# Altium integrated library Maxim Power and Battery Management.IntLib: 645 symbols (part 6 of 15)
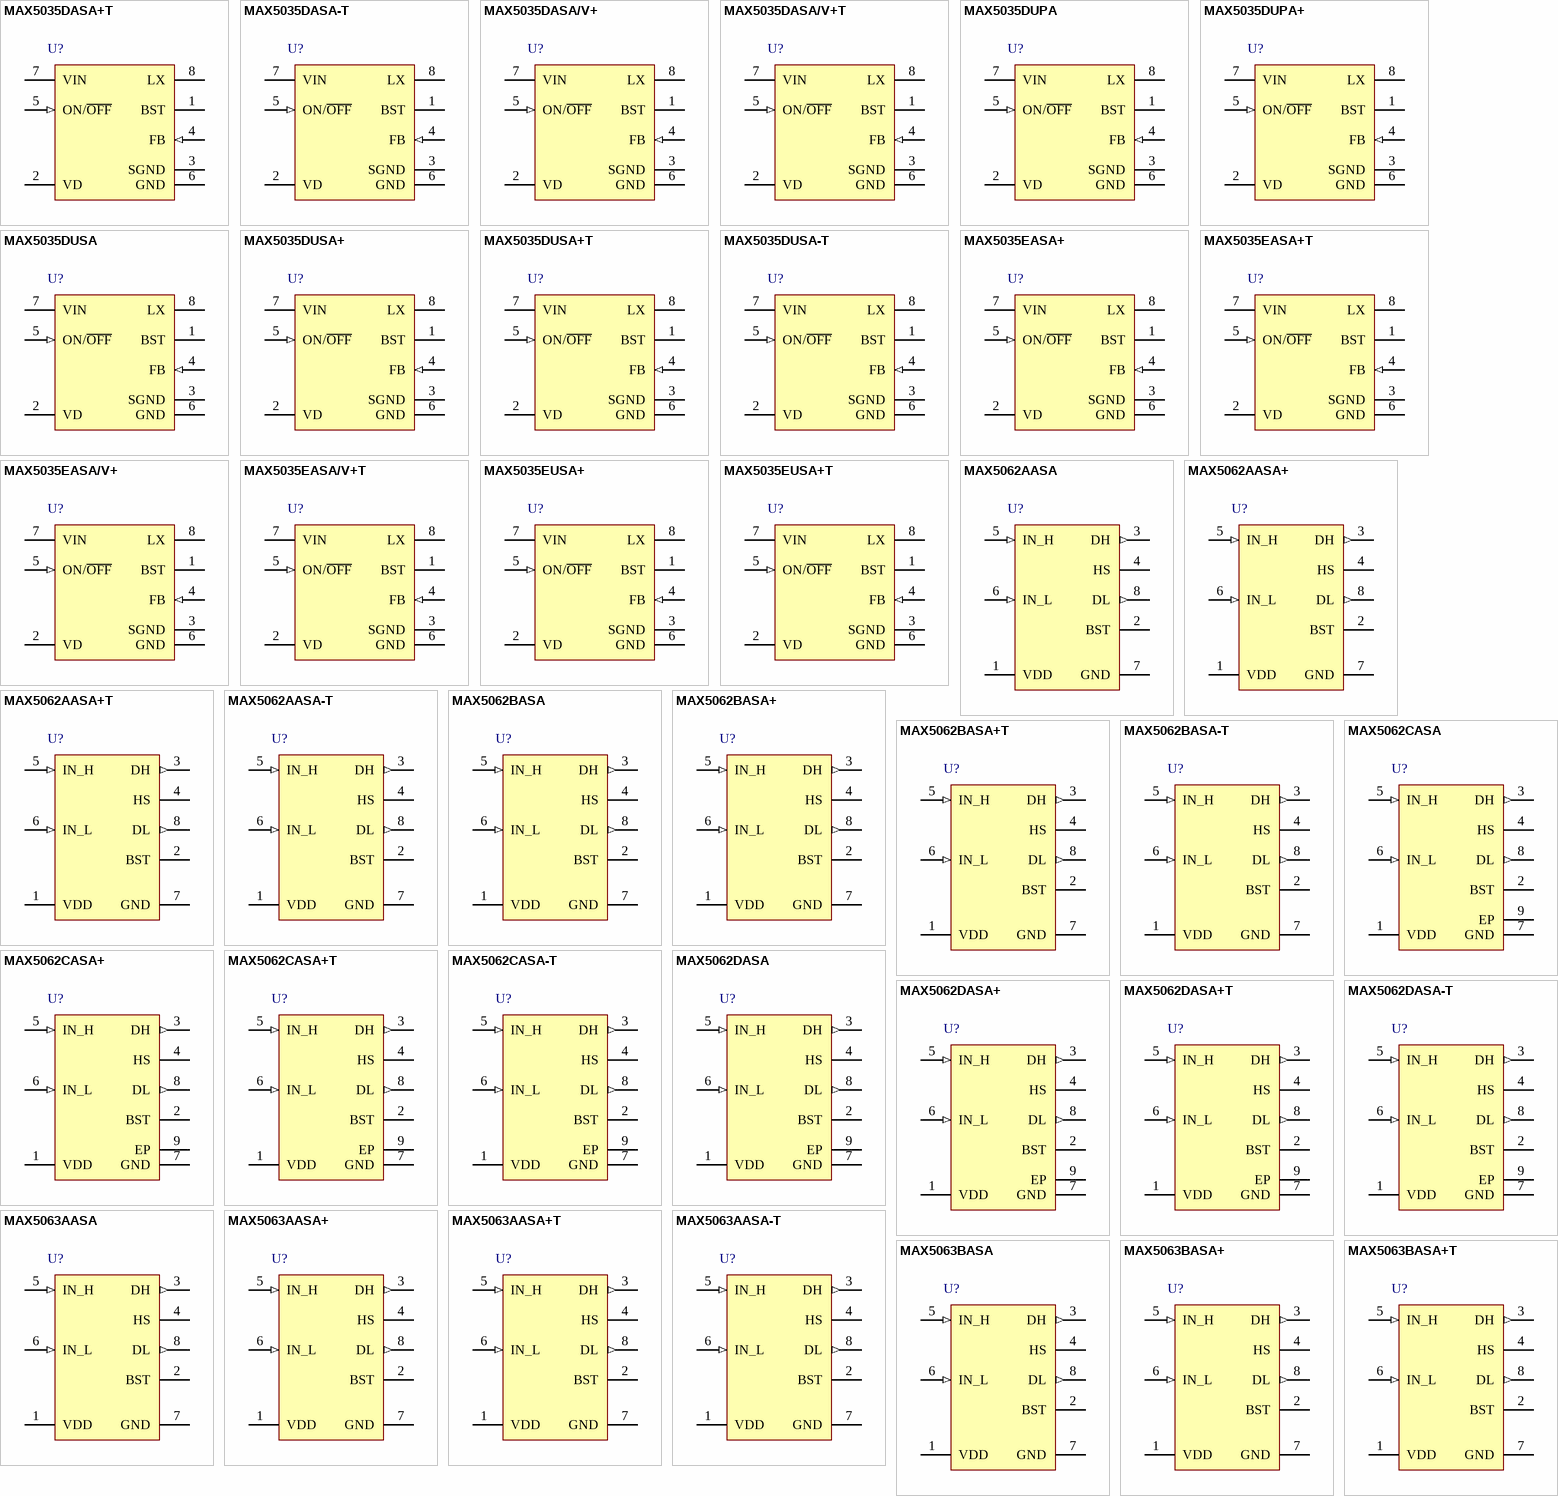
[diagram p24: symbols MAX5035DASA+T to MAX5063BASA+T]

## MAX5062BASA+
designator U?
125V/2A, High-Speed, Half-Bridge MOSFET Driver, non-inverting high driver, inverting low driver, 8-Pin SOIC, -40°C to +125°C, Pb-Free; DatasheetVersion: Rev 5, May-2007; PackageVersion: revC, 2010; PackageReference: S8+5; PackageDescription: 8-Pin Small-Outline IC, Narrow (0.15in), 1.27 mm Pitch, SOIC (N), Pb-Free; Code_JEDEC: MS-012-AA; Code_IPC: SOIC127P600-8; ComponentLink1Description: Manufacturer URL; ComponentLink1URL: http://www.maxim-ic.com; ComponentLink2Description: Datasheet; ComponentLink2URL: http://datasheets.maxim-ic.com/en/ds/MAX5062-MAX5064B.pdf; ComponentLink3Description: Package Specification; ComponentLink3URL: http://pdfserv.maxim-ic.com/package_dwgs/21-0041.PDF
footprint S8+5_N (SOIC, 8-Leads, Body 4.9x3.9mm, Pitch 1.27mm, IPC Medium Density)
footprint S8+5_L (SOIC, 8-Leads, Body 4.9x3.9mm, Pitch 1.27mm, IPC High Density)
footprint S8+5_M (SOIC, 8-Leads, Body 4.9x3.9mm, Pitch 1.27mm, IPC Low Density)
pins: 1 VDD (power), 2 BST, 3 DH (out), 4 HS, 5 IN_H (in), 6 IN_L (in), 7 GND (power), 8 DL (out)

## MAX5062BASA+T
designator U?
125V/2A, High-Speed, Half-Bridge MOSFET Driver, non-inverting high driver, inverting low driver, 8-Pin SOIC-EP, -40°C to +125°C, Pb-Free, Tape and Reel; DatasheetVersion: Rev 5, May-2007; PackageVersion: revC, 2010; PackageReference: S8+5; PackageDescription: 8-Pin Small-Outline IC, Narrow (0.15in), 1.27 mm Pitch, SOIC (N), Pb-Free; Code_JEDEC: MS-012-AA; Code_IPC: SOIC127P600-8; ComponentLink1Description: Manufacturer URL; ComponentLink1URL: http://www.maxim-ic.com; ComponentLink2Description: Datasheet; ComponentLink2URL: http://datasheets.maxim-ic.com/en/ds/MAX5062-MAX5064B.pdf; ComponentLink3Description: Package Specification; ComponentLink3URL: http://pdfserv.maxim-ic.com/package_dwgs/21-0111.PDF
footprint S8+5_N (SOIC, 8-Leads, Body 4.9x3.9mm, Pitch 1.27mm, IPC Medium Density)
footprint S8+5_L (SOIC, 8-Leads, Body 4.9x3.9mm, Pitch 1.27mm, IPC High Density)
footprint S8+5_M (SOIC, 8-Leads, Body 4.9x3.9mm, Pitch 1.27mm, IPC Low Density)
pins: 1 VDD (power), 2 BST, 3 DH (out), 4 HS, 5 IN_H (in), 6 IN_L (in), 7 GND (power), 8 DL (out)

## MAX5062BASA-T
designator U?
125V/2A, High-Speed, Half-Bridge MOSFET Driver, non-inverting high driver, inverting low driver, 8-Pin SOIC-EP, -40°C to +125°C, Tape and Reel; DatasheetVersion: Rev 5, May-2007; PackageVersion: revC, 2010; PackageReference: S8-5; PackageDescription: 8-Pin Small-Outline IC, Narrow (0.15in), 1.27 mm Pitch, SOIC (N); Code_JEDEC: MS-012-AA; Code_IPC: SOIC127P600-8; ComponentLink1Description: Manufacturer URL; ComponentLink1URL: http://www.maxim-ic.com; ComponentLink2Description: Datasheet; ComponentLink2URL: http://datasheets.maxim-ic.com/en/ds/MAX5062-MAX5064B.pdf; ComponentLink3Description: Package Specification; ComponentLink3URL: http://pdfserv.maxim-ic.com/package_dwgs/21-0111.PDF
footprint S8-5_N (SOIC, 8-Leads, Body 4.9x3.9mm, Pitch 1.27mm, IPC Medium Density)
footprint S8-5_L (SOIC, 8-Leads, Body 4.9x3.9mm, Pitch 1.27mm, IPC High Density)
footprint S8-5_M (SOIC, 8-Leads, Body 4.9x3.9mm, Pitch 1.27mm, IPC Low Density)
pins: 1 VDD (power), 2 BST, 3 DH (out), 4 HS, 5 IN_H (in), 6 IN_L (in), 7 GND (power), 8 DL (out)

## MAX5062CASA
designator U?
125V/2A, High-Speed, Half-Bridge MOSFET Driver, non-inverting high driver, non-inverting low driver, 8-Pin SOIC-EP, -40°C to +125°C; DatasheetVersion: Rev 5, May-2007; PackageVersion: revE, 2009; PackageReference: S8E-14; PackageDescription: 8-Pin Small-Outline IC, Narrow (0.15in), Exposed Pad, 1.27 mm Pitch, SOIC(N)-EP; Code_JEDEC: MS-012*; ComponentLink1Description: Manufacturer URL; ComponentLink1URL: http://www.maxim-ic.com; ComponentLink2Description: Datasheet; ComponentLink2URL: http://datasheets.maxim-ic.com/en/ds/MAX5062-MAX5064B.pdf; ComponentLink3Description: Package Specification; ComponentLink3URL: http://pdfserv.maxim-ic.com/package_dwgs/21-0111.PDF
footprint S8E-14_N (SOIC, 8-Leads, Body 4.9x3.9mm, Pitch 1.27mm, Thermal Pad, IPC Medium Density)
footprint S8E-14_L (SOIC, 8-Leads, Body 4.9x3.9mm, Pitch 1.27mm, Thermal Pad, IPC High Density)
footprint S8E-14_M (SOIC, 8-Leads, Body 4.9x3.9mm, Pitch 1.27mm, Thermal Pad, IPC Low Density)
pins: 1 VDD (power), 2 BST, 3 DH (out), 4 HS, 5 IN_H (in), 6 IN_L (in), 7 GND (power), 8 DL (out), 9 EP (power)

## MAX5062CASA+
designator U?
125V/2A, High-Speed, Half-Bridge MOSFET Driver, non-inverting high driver, non-inverting low driver, 8-Pin SOIC-EP, -40°C to +125°C, Pb-Free; DatasheetVersion: Rev 5, May-2007; PackageVersion: revE, 2009; PackageReference: S8E+14; PackageDescription: 8-Pin Small-Outline IC, Narrow (0.15in), Exposed Pad, 1.27 mm Pitch, SOIC(N)-EP, Pb-Free; Code_JEDEC: MS-012*; ComponentLink1Description: Manufacturer URL; ComponentLink1URL: http://www.maxim-ic.com; ComponentLink2Description: Datasheet; ComponentLink2URL: http://datasheets.maxim-ic.com/en/ds/MAX5062-MAX5064B.pdf; ComponentLink3Description: Package Specification; ComponentLink3URL: http://pdfserv.maxim-ic.com/package_dwgs/21-0111.PDF
footprint S8E+14_N (SOIC, 8-Leads, Body 4.9x3.9mm, Pitch 1.27mm, Thermal Pad, IPC Medium Density)
footprint S8E+14_L (SOIC, 8-Leads, Body 4.9x3.9mm, Pitch 1.27mm, Thermal Pad, IPC High Density)
footprint S8E+14_M (SOIC, 8-Leads, Body 4.9x3.9mm, Pitch 1.27mm, Thermal Pad, IPC Low Density)
pins: 1 VDD (power), 2 BST, 3 DH (out), 4 HS, 5 IN_H (in), 6 IN_L (in), 7 GND (power), 8 DL (out), 9 EP (power)

## MAX5062CASA+T
designator U?
125V/2A, High-Speed, Half-Bridge MOSFET Driver, non-inverting high driver, non-inverting low driver, 8-Pin SOIC-EP, -40°C to +125°C, Pb-Free, Tape and Reel; DatasheetVersion: Rev 5, May-2007; PackageVersion: revE, 2009; PackageReference: S8E+14; PackageDescription: 8-Pin Small-Outline IC, Narrow (0.15in), Exposed Pad, 1.27 mm Pitch, SOIC(N)-EP, Pb-Free; Code_JEDEC: MS-012*; ComponentLink1Description: Manufacturer URL; ComponentLink1URL: http://www.maxim-ic.com; ComponentLink2Description: Datasheet; ComponentLink2URL: http://datasheets.maxim-ic.com/en/ds/MAX5062-MAX5064B.pdf; ComponentLink3Description: Package Specification; ComponentLink3URL: http://pdfserv.maxim-ic.com/package_dwgs/21-0111.PDF
footprint S8E+14_N (SOIC, 8-Leads, Body 4.9x3.9mm, Pitch 1.27mm, Thermal Pad, IPC Medium Density)
footprint S8E+14_L (SOIC, 8-Leads, Body 4.9x3.9mm, Pitch 1.27mm, Thermal Pad, IPC High Density)
footprint S8E+14_M (SOIC, 8-Leads, Body 4.9x3.9mm, Pitch 1.27mm, Thermal Pad, IPC Low Density)
pins: 1 VDD (power), 2 BST, 3 DH (out), 4 HS, 5 IN_H (in), 6 IN_L (in), 7 GND (power), 8 DL (out), 9 EP (power)

## MAX5062CASA-T
designator U?
125V/2A, High-Speed, Half-Bridge MOSFET Driver, non-inverting high driver, non-inverting low driver, 8-Pin SOIC-EP, -40°C to +125°C, Tape and Reel; DatasheetVersion: Rev 5, May-2007; PackageVersion: revE, 2009; PackageReference: S8E-14; PackageDescription: 8-Pin Small-Outline IC, Narrow (0.15in), Exposed Pad, 1.27 mm Pitch, SOIC(N)-EP; Code_JEDEC: MS-012*; ComponentLink1Description: Manufacturer URL; ComponentLink1URL: http://www.maxim-ic.com; ComponentLink2Description: Datasheet; ComponentLink2URL: http://datasheets.maxim-ic.com/en/ds/MAX5062-MAX5064B.pdf; ComponentLink3Description: Package Specification; ComponentLink3URL: http://pdfserv.maxim-ic.com/package_dwgs/21-0111.PDF
footprint S8E-14_N (SOIC, 8-Leads, Body 4.9x3.9mm, Pitch 1.27mm, Thermal Pad, IPC Medium Density)
footprint S8E-14_L (SOIC, 8-Leads, Body 4.9x3.9mm, Pitch 1.27mm, Thermal Pad, IPC High Density)
footprint S8E-14_M (SOIC, 8-Leads, Body 4.9x3.9mm, Pitch 1.27mm, Thermal Pad, IPC Low Density)
pins: 1 VDD (power), 2 BST, 3 DH (out), 4 HS, 5 IN_H (in), 6 IN_L (in), 7 GND (power), 8 DL (out), 9 EP (power)

## MAX5062DASA
designator U?
125V/2A, High-Speed, Half-Bridge MOSFET Driver, non-inverting high driver, inverting low driver, 8-Pin SOIC-EP, -40°C to +125°C; DatasheetVersion: Rev 5, May-2007; PackageVersion: revE, 2009; PackageReference: S8E-14; PackageDescription: 8-Pin Small-Outline IC, Narrow (0.15in), Exposed Pad, 1.27 mm Pitch, SOIC(N)-EP; Code_JEDEC: MS-012*; ComponentLink1Description: Manufacturer URL; ComponentLink1URL: http://www.maxim-ic.com; ComponentLink2Description: Datasheet; ComponentLink2URL: http://datasheets.maxim-ic.com/en/ds/MAX5062-MAX5064B.pdf; ComponentLink3Description: Package Specification; ComponentLink3URL: http://pdfserv.maxim-ic.com/package_dwgs/21-0111.PDF
footprint S8E-14_N (SOIC, 8-Leads, Body 4.9x3.9mm, Pitch 1.27mm, Thermal Pad, IPC Medium Density)
footprint S8E-14_L (SOIC, 8-Leads, Body 4.9x3.9mm, Pitch 1.27mm, Thermal Pad, IPC High Density)
footprint S8E-14_M (SOIC, 8-Leads, Body 4.9x3.9mm, Pitch 1.27mm, Thermal Pad, IPC Low Density)
pins: 1 VDD (power), 2 BST, 3 DH (out), 4 HS, 5 IN_H (in), 6 IN_L (in), 7 GND (power), 8 DL (out), 9 EP (power)

## MAX5062DASA+
designator U?
125V/2A, High-Speed, Half-Bridge MOSFET Driver, non-inverting high driver, inverting low driver, 8-Pin SOIC-EP, -40°C to +125°C, Pb-Free; DatasheetVersion: Rev 5, May-2007; PackageVersion: revE, 2009; PackageReference: S8E+14; PackageDescription: 8-Pin Small-Outline IC, Narrow (0.15in), Exposed Pad, 1.27 mm Pitch, SOIC(N)-EP, Pb-Free; Code_JEDEC: MS-012*; ComponentLink1Description: Manufacturer URL; ComponentLink1URL: http://www.maxim-ic.com; ComponentLink2Description: Datasheet; ComponentLink2URL: http://datasheets.maxim-ic.com/en/ds/MAX5062-MAX5064B.pdf; ComponentLink3Description: Package Specification; ComponentLink3URL: http://pdfserv.maxim-ic.com/package_dwgs/21-0111.PDF
footprint S8E+14_N (SOIC, 8-Leads, Body 4.9x3.9mm, Pitch 1.27mm, Thermal Pad, IPC Medium Density)
footprint S8E+14_L (SOIC, 8-Leads, Body 4.9x3.9mm, Pitch 1.27mm, Thermal Pad, IPC High Density)
footprint S8E+14_M (SOIC, 8-Leads, Body 4.9x3.9mm, Pitch 1.27mm, Thermal Pad, IPC Low Density)
pins: 1 VDD (power), 2 BST, 3 DH (out), 4 HS, 5 IN_H (in), 6 IN_L (in), 7 GND (power), 8 DL (out), 9 EP (power)

## MAX5062DASA+T
designator U?
125V/2A, High-Speed, Half-Bridge MOSFET Driver, non-inverting high driver, inverting low driver, 8-Pin SOIC-EP, -40°C to +125°C, Pb-Free, Tape and Reel; DatasheetVersion: Rev 5, May-2007; PackageVersion: revE, 2009; PackageReference: S8E+14; PackageDescription: 8-Pin Small-Outline IC, Narrow (0.15in), Exposed Pad, 1.27 mm Pitch, SOIC(N)-EP, Pb-Free; Code_JEDEC: MS-012*; ComponentLink1Description: Manufacturer URL; ComponentLink1URL: http://www.maxim-ic.com; ComponentLink2Description: Datasheet; ComponentLink2URL: http://datasheets.maxim-ic.com/en/ds/MAX5062-MAX5064B.pdf; ComponentLink3Description: Package Specification; ComponentLink3URL: http://pdfserv.maxim-ic.com/package_dwgs/21-0111.PDF
footprint S8E+14_N (SOIC, 8-Leads, Body 4.9x3.9mm, Pitch 1.27mm, Thermal Pad, IPC Medium Density)
footprint S8E+14_L (SOIC, 8-Leads, Body 4.9x3.9mm, Pitch 1.27mm, Thermal Pad, IPC High Density)
footprint S8E+14_M (SOIC, 8-Leads, Body 4.9x3.9mm, Pitch 1.27mm, Thermal Pad, IPC Low Density)
pins: 1 VDD (power), 2 BST, 3 DH (out), 4 HS, 5 IN_H (in), 6 IN_L (in), 7 GND (power), 8 DL (out), 9 EP (power)

## MAX5062DASA-T
designator U?
125V/2A, High-Speed, Half-Bridge MOSFET Driver, non-inverting high driver, inverting low driver, 8-Pin SOIC-EP, -40°C to +125°C, Tape and Reel; DatasheetVersion: Rev 5, May-2007; PackageVersion: revE, 2009; PackageReference: S8E-14; PackageDescription: 8-Pin Small-Outline IC, Narrow (0.15in), Exposed Pad, 1.27 mm Pitch, SOIC(N)-EP; Code_JEDEC: MS-012*; ComponentLink1Description: Manufacturer URL; ComponentLink1URL: http://www.maxim-ic.com; ComponentLink2Description: Datasheet; ComponentLink2URL: http://datasheets.maxim-ic.com/en/ds/MAX5062-MAX5064B.pdf; ComponentLink3Description: Package Specification; ComponentLink3URL: http://pdfserv.maxim-ic.com/package_dwgs/21-0111.PDF
footprint S8E-14_N (SOIC, 8-Leads, Body 4.9x3.9mm, Pitch 1.27mm, Thermal Pad, IPC Medium Density)
footprint S8E-14_L (SOIC, 8-Leads, Body 4.9x3.9mm, Pitch 1.27mm, Thermal Pad, IPC High Density)
footprint S8E-14_M (SOIC, 8-Leads, Body 4.9x3.9mm, Pitch 1.27mm, Thermal Pad, IPC Low Density)
pins: 1 VDD (power), 2 BST, 3 DH (out), 4 HS, 5 IN_H (in), 6 IN_L (in), 7 GND (power), 8 DL (out), 9 EP (power)

## MAX5063AASA
designator U?
125V/2A, High-Speed, Half-Bridge MOSFET Driver, non-inverting high driver, non-inverting low driver, 8-Pin SOIC, -40°C to +125°C; DatasheetVersion: Rev 5, May-2007; PackageVersion: revC, 2010; PackageReference: S8-5; PackageDescription: 8-Pin Small-Outline IC, Narrow (0.15in), 1.27 mm Pitch, SOIC (N); Code_JEDEC: MS-012-AA; Code_IPC: SOIC127P600-8; ComponentLink1Description: Manufacturer URL; ComponentLink1URL: http://www.maxim-ic.com; ComponentLink2Description: Datasheet; ComponentLink2URL: http://datasheets.maxim-ic.com/en/ds/MAX5062-MAX5064B.pdf; ComponentLink3Description: Package Specification; ComponentLink3URL: http://pdfserv.maxim-ic.com/package_dwgs/21-0041.PDF
footprint S8-5_N (SOIC, 8-Leads, Body 4.9x3.9mm, Pitch 1.27mm, IPC Medium Density)
footprint S8-5_L (SOIC, 8-Leads, Body 4.9x3.9mm, Pitch 1.27mm, IPC High Density)
footprint S8-5_M (SOIC, 8-Leads, Body 4.9x3.9mm, Pitch 1.27mm, IPC Low Density)
pins: 1 VDD (power), 2 BST, 3 DH (out), 4 HS, 5 IN_H (in), 6 IN_L (in), 7 GND (power), 8 DL (out)

## MAX5063AASA+
designator U?
125V/2A, High-Speed, Half-Bridge MOSFET Driver, non-inverting high driver, non-inverting low driver, 8-Pin SOIC, -40°C to +125°C, Pb-Free; DatasheetVersion: Rev 5, May-2007; PackageVersion: revC, 2010; PackageReference: S8+5; PackageDescription: 8-Pin Small-Outline IC, Narrow (0.15in), 1.27 mm Pitch, SOIC (N), Pb-Free; Code_JEDEC: MS-012-AA; Code_IPC: SOIC127P600-8; ComponentLink1Description: Manufacturer URL; ComponentLink1URL: http://www.maxim-ic.com; ComponentLink2Description: Datasheet; ComponentLink2URL: http://datasheets.maxim-ic.com/en/ds/MAX5062-MAX5064B.pdf; ComponentLink3Description: Package Specification; ComponentLink3URL: http://pdfserv.maxim-ic.com/package_dwgs/21-0041.PDF
footprint S8+5_N (SOIC, 8-Leads, Body 4.9x3.9mm, Pitch 1.27mm, IPC Medium Density)
footprint S8+5_L (SOIC, 8-Leads, Body 4.9x3.9mm, Pitch 1.27mm, IPC High Density)
footprint S8+5_M (SOIC, 8-Leads, Body 4.9x3.9mm, Pitch 1.27mm, IPC Low Density)
pins: 1 VDD (power), 2 BST, 3 DH (out), 4 HS, 5 IN_H (in), 6 IN_L (in), 7 GND (power), 8 DL (out)

## MAX5063AASA+T
designator U?
125V/2A, High-Speed, Half-Bridge MOSFET Driver, non-inverting high driver, non-inverting low driver, 8-Pin SOIC, -40°C to +125°C, Pb-Free, Tape and Reel; DatasheetVersion: Rev 5, May-2007; PackageVersion: revC, 2010; PackageReference: S8+5; PackageDescription: 8-Pin Small-Outline IC, Narrow (0.15in), 1.27 mm Pitch, SOIC (N), Pb-Free; Code_JEDEC: MS-012-AA; Code_IPC: SOIC127P600-8; ComponentLink1Description: Manufacturer URL; ComponentLink1URL: http://www.maxim-ic.com; ComponentLink2Description: Datasheet; ComponentLink2URL: http://datasheets.maxim-ic.com/en/ds/MAX5062-MAX5064B.pdf; ComponentLink3Description: Package Specification; ComponentLink3URL: http://pdfserv.maxim-ic.com/package_dwgs/21-0041.PDF
footprint S8+5_N (SOIC, 8-Leads, Body 4.9x3.9mm, Pitch 1.27mm, IPC Medium Density)
footprint S8+5_L (SOIC, 8-Leads, Body 4.9x3.9mm, Pitch 1.27mm, IPC High Density)
footprint S8+5_M (SOIC, 8-Leads, Body 4.9x3.9mm, Pitch 1.27mm, IPC Low Density)
pins: 1 VDD (power), 2 BST, 3 DH (out), 4 HS, 5 IN_H (in), 6 IN_L (in), 7 GND (power), 8 DL (out)

## MAX5063AASA-T
designator U?
125V/2A, High-Speed, Half-Bridge MOSFET Driver, non-inverting high driver, non-inverting low driver, 8-Pin SOIC, -40°C to +125°C, Tape and Reel; DatasheetVersion: Rev 5, May-2007; PackageVersion: revC, 2010; PackageReference: S8-5; PackageDescription: 8-Pin Small-Outline IC, Narrow (0.15in), 1.27 mm Pitch, SOIC (N); Code_JEDEC: MS-012-AA; Code_IPC: SOIC127P600-8; ComponentLink1Description: Manufacturer URL; ComponentLink1URL: http://www.maxim-ic.com; ComponentLink2Description: Datasheet; ComponentLink2URL: http://datasheets.maxim-ic.com/en/ds/MAX5062-MAX5064B.pdf; ComponentLink3Description: Package Specification; ComponentLink3URL: http://pdfserv.maxim-ic.com/package_dwgs/21-0041.PDF
footprint S8-5_N (SOIC, 8-Leads, Body 4.9x3.9mm, Pitch 1.27mm, IPC Medium Density)
footprint S8-5_L (SOIC, 8-Leads, Body 4.9x3.9mm, Pitch 1.27mm, IPC High Density)
footprint S8-5_M (SOIC, 8-Leads, Body 4.9x3.9mm, Pitch 1.27mm, IPC Low Density)
pins: 1 VDD (power), 2 BST, 3 DH (out), 4 HS, 5 IN_H (in), 6 IN_L (in), 7 GND (power), 8 DL (out)

## MAX5063BASA
designator U?
125V/2A, High-Speed, Half-Bridge MOSFET Driver, non-inverting high driver, inverting low driver, 8-Pin SOIC, -40°C to +125°C; DatasheetVersion: Rev 5, May-2007; PackageVersion: revC, 2010; PackageReference: S8-5; PackageDescription: 8-Pin Small-Outline IC, Narrow (0.15in), 1.27 mm Pitch, SOIC (N); Code_JEDEC: MS-012-AA; Code_IPC: SOIC127P600-8; ComponentLink1Description: Manufacturer URL; ComponentLink1URL: http://www.maxim-ic.com; ComponentLink2Description: Datasheet; ComponentLink2URL: http://datasheets.maxim-ic.com/en/ds/MAX5062-MAX5064B.pdf; ComponentLink3Description: Package Specification; ComponentLink3URL: http://pdfserv.maxim-ic.com/package_dwgs/21-0041.PDF
footprint S8-5_N (SOIC, 8-Leads, Body 4.9x3.9mm, Pitch 1.27mm, IPC Medium Density)
footprint S8-5_L (SOIC, 8-Leads, Body 4.9x3.9mm, Pitch 1.27mm, IPC High Density)
footprint S8-5_M (SOIC, 8-Leads, Body 4.9x3.9mm, Pitch 1.27mm, IPC Low Density)
pins: 1 VDD (power), 2 BST, 3 DH (out), 4 HS, 5 IN_H (in), 6 IN_L (in), 7 GND (power), 8 DL (out)

## MAX5063BASA+
designator U?
125V/2A, High-Speed, Half-Bridge MOSFET Driver, non-inverting high driver, inverting low driver, 8-Pin SOIC, -40°C to +125°C, Pb-Free; DatasheetVersion: Rev 5, May-2007; PackageVersion: revC, 2010; PackageReference: S8+5; PackageDescription: 8-Pin Small-Outline IC, Narrow (0.15in), 1.27 mm Pitch, SOIC (N), Pb-Free; Code_JEDEC: MS-012-AA; Code_IPC: SOIC127P600-8; ComponentLink1Description: Manufacturer URL; ComponentLink1URL: http://www.maxim-ic.com; ComponentLink2Description: Datasheet; ComponentLink2URL: http://datasheets.maxim-ic.com/en/ds/MAX5062-MAX5064B.pdf; ComponentLink3Description: Package Specification; ComponentLink3URL: http://pdfserv.maxim-ic.com/package_dwgs/21-0041.PDF
footprint S8+5_N (SOIC, 8-Leads, Body 4.9x3.9mm, Pitch 1.27mm, IPC Medium Density)
footprint S8+5_L (SOIC, 8-Leads, Body 4.9x3.9mm, Pitch 1.27mm, IPC High Density)
footprint S8+5_M (SOIC, 8-Leads, Body 4.9x3.9mm, Pitch 1.27mm, IPC Low Density)
pins: 1 VDD (power), 2 BST, 3 DH (out), 4 HS, 5 IN_H (in), 6 IN_L (in), 7 GND (power), 8 DL (out)

## MAX5063BASA+T
designator U?
125V/2A, High-Speed, Half-Bridge MOSFET Driver, non-inverting high driver, inverting low driver, 8-Pin SOIC, -40°C to +125°C, Pb-Free, Tape and Reel; DatasheetVersion: Rev 5, May-2007; PackageVersion: revC, 2010; PackageReference: S8+5; PackageDescription: 8-Pin Small-Outline IC, Narrow (0.15in), 1.27 mm Pitch, SOIC (N), Pb-Free; Code_JEDEC: MS-012-AA; Code_IPC: SOIC127P600-8; ComponentLink1Description: Manufacturer URL; ComponentLink1URL: http://www.maxim-ic.com; ComponentLink2Description: Datasheet; ComponentLink2URL: http://datasheets.maxim-ic.com/en/ds/MAX5062-MAX5064B.pdf; ComponentLink3Description: Package Specification; ComponentLink3URL: http://pdfserv.maxim-ic.com/package_dwgs/21-0041.PDF
footprint S8+5_N (SOIC, 8-Leads, Body 4.9x3.9mm, Pitch 1.27mm, IPC Medium Density)
footprint S8+5_L (SOIC, 8-Leads, Body 4.9x3.9mm, Pitch 1.27mm, IPC High Density)
footprint S8+5_M (SOIC, 8-Leads, Body 4.9x3.9mm, Pitch 1.27mm, IPC Low Density)
pins: 1 VDD (power), 2 BST, 3 DH (out), 4 HS, 5 IN_H (in), 6 IN_L (in), 7 GND (power), 8 DL (out)

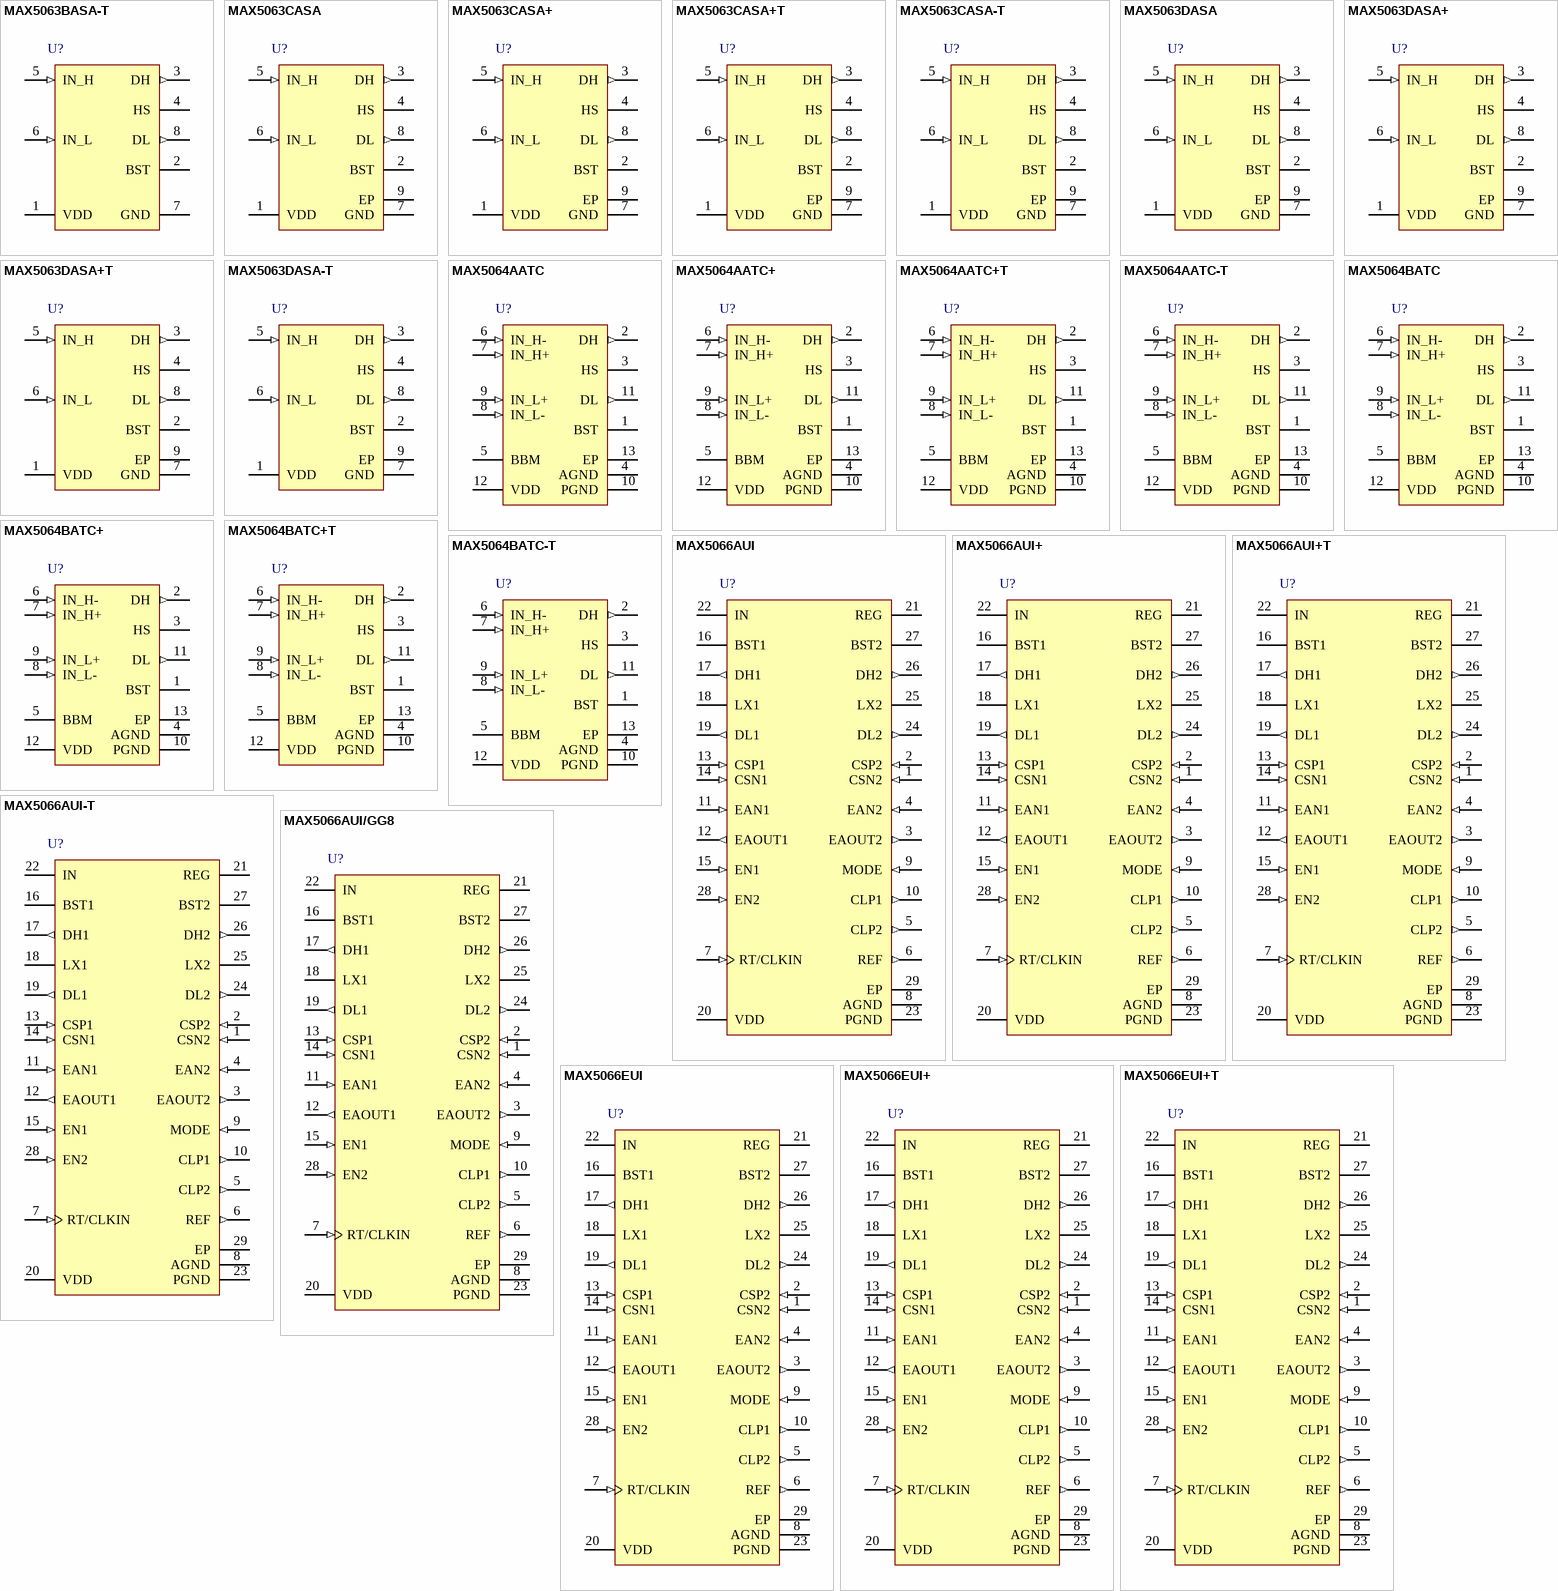
[diagram p7: symbols MAX5063BASA-T to MAX5066EUI+T]

## MAX5063BASA-T
designator U?
125V/2A, High-Speed, Half-Bridge MOSFET Driver, non-inverting high driver, inverting low driver, 8-Pin SOIC, -40°C to +125°C, Tape and Reel; DatasheetVersion: Rev 5, May-2007; PackageVersion: revC, 2010; PackageReference: S8-5; PackageDescription: 8-Pin Small-Outline IC, Narrow (0.15in), 1.27 mm Pitch, SOIC (N); Code_JEDEC: MS-012-AA; Code_IPC: SOIC127P600-8; ComponentLink1Description: Manufacturer URL; ComponentLink1URL: http://www.maxim-ic.com; ComponentLink2Description: Datasheet; ComponentLink2URL: http://datasheets.maxim-ic.com/en/ds/MAX5062-MAX5064B.pdf; ComponentLink3Description: Package Specification; ComponentLink3URL: http://pdfserv.maxim-ic.com/package_dwgs/21-0041.PDF
footprint S8-5_N (SOIC, 8-Leads, Body 4.9x3.9mm, Pitch 1.27mm, IPC Medium Density)
footprint S8-5_L (SOIC, 8-Leads, Body 4.9x3.9mm, Pitch 1.27mm, IPC High Density)
footprint S8-5_M (SOIC, 8-Leads, Body 4.9x3.9mm, Pitch 1.27mm, IPC Low Density)
pins: 1 VDD (power), 2 BST, 3 DH (out), 4 HS, 5 IN_H (in), 6 IN_L (in), 7 GND (power), 8 DL (out)

## MAX5063CASA
designator U?
125V/2A, High-Speed, Half-Bridge MOSFET Driver, non-inverting high driver, non-inverting low driver, 8-Pin SOIC-EP, -40°C to +125°C; DatasheetVersion: Rev 5, May-2007; PackageVersion: revE, 2009; PackageReference: S8E-14; PackageDescription: 8-Pin Small-Outline IC, Narrow (0.15in), Exposed Pad, 1.27 mm Pitch, SOIC(N)-EP; Code_JEDEC: MS-012*; ComponentLink1Description: Manufacturer URL; ComponentLink1URL: http://www.maxim-ic.com; ComponentLink2Description: Datasheet; ComponentLink2URL: http://datasheets.maxim-ic.com/en/ds/MAX5062-MAX5064B.pdf; ComponentLink3Description: Package Specification; ComponentLink3URL: http://pdfserv.maxim-ic.com/package_dwgs/21-0111.PDF
footprint S8E-14_N (SOIC, 8-Leads, Body 4.9x3.9mm, Pitch 1.27mm, Thermal Pad, IPC Medium Density)
footprint S8E-14_L (SOIC, 8-Leads, Body 4.9x3.9mm, Pitch 1.27mm, Thermal Pad, IPC High Density)
footprint S8E-14_M (SOIC, 8-Leads, Body 4.9x3.9mm, Pitch 1.27mm, Thermal Pad, IPC Low Density)
pins: 1 VDD (power), 2 BST, 3 DH (out), 4 HS, 5 IN_H (in), 6 IN_L (in), 7 GND (power), 8 DL (out), 9 EP (power)

## MAX5063CASA+
designator U?
125V/2A, High-Speed, Half-Bridge MOSFET Driver, non-inverting high driver, non-inverting low driver, 8-Pin SOIC-EP, -40°C to +125°C, Pb-Free; DatasheetVersion: Rev 5, May-2007; PackageVersion: revE, 2009; PackageReference: S8E+14; PackageDescription: 8-Pin Small-Outline IC, Narrow (0.15in), Exposed Pad, 1.27 mm Pitch, SOIC(N)-EP, Pb-Free; Code_JEDEC: MS-012*; ComponentLink1Description: Manufacturer URL; ComponentLink1URL: http://www.maxim-ic.com; ComponentLink2Description: Datasheet; ComponentLink2URL: http://datasheets.maxim-ic.com/en/ds/MAX5062-MAX5064B.pdf; ComponentLink3Description: Package Specification; ComponentLink3URL: http://pdfserv.maxim-ic.com/package_dwgs/21-0111.PDF
footprint S8E+14_N (SOIC, 8-Leads, Body 4.9x3.9mm, Pitch 1.27mm, Thermal Pad, IPC Medium Density)
footprint S8E+14_L (SOIC, 8-Leads, Body 4.9x3.9mm, Pitch 1.27mm, Thermal Pad, IPC High Density)
footprint S8E+14_M (SOIC, 8-Leads, Body 4.9x3.9mm, Pitch 1.27mm, Thermal Pad, IPC Low Density)
pins: 1 VDD (power), 2 BST, 3 DH (out), 4 HS, 5 IN_H (in), 6 IN_L (in), 7 GND (power), 8 DL (out), 9 EP (power)

## MAX5063CASA+T
designator U?
125V/2A, High-Speed, Half-Bridge MOSFET Driver, non-inverting high driver, non-inverting low driver, 8-Pin SOIC-EP, -40°C to +125°C, Pb-Free, Tape and Reel; DatasheetVersion: Rev 5, May-2007; PackageVersion: revE, 2009; PackageReference: S8E+14; PackageDescription: 8-Pin Small-Outline IC, Narrow (0.15in), Exposed Pad, 1.27 mm Pitch, SOIC(N)-EP, Pb-Free; Code_JEDEC: MS-012*; ComponentLink1Description: Manufacturer URL; ComponentLink1URL: http://www.maxim-ic.com; ComponentLink2Description: Datasheet; ComponentLink2URL: http://datasheets.maxim-ic.com/en/ds/MAX5062-MAX5064B.pdf; ComponentLink3Description: Package Specification; ComponentLink3URL: http://pdfserv.maxim-ic.com/package_dwgs/21-0111.PDF
footprint S8E+14_N (SOIC, 8-Leads, Body 4.9x3.9mm, Pitch 1.27mm, Thermal Pad, IPC Medium Density)
footprint S8E+14_L (SOIC, 8-Leads, Body 4.9x3.9mm, Pitch 1.27mm, Thermal Pad, IPC High Density)
footprint S8E+14_M (SOIC, 8-Leads, Body 4.9x3.9mm, Pitch 1.27mm, Thermal Pad, IPC Low Density)
pins: 1 VDD (power), 2 BST, 3 DH (out), 4 HS, 5 IN_H (in), 6 IN_L (in), 7 GND (power), 8 DL (out), 9 EP (power)

## MAX5063CASA-T
designator U?
125V/2A, High-Speed, Half-Bridge MOSFET Driver, non-inverting high driver, non-inverting low driver, 8-Pin SOIC-EP, -40°C to +125°C, Tape and Reel; DatasheetVersion: Rev 5, May-2007; PackageVersion: revE, 2009; PackageReference: S8E-14; PackageDescription: 8-Pin Small-Outline IC, Narrow (0.15in), Exposed Pad, 1.27 mm Pitch, SOIC(N)-EP; Code_JEDEC: MS-012*; ComponentLink1Description: Manufacturer URL; ComponentLink1URL: http://www.maxim-ic.com; ComponentLink2Description: Datasheet; ComponentLink2URL: http://datasheets.maxim-ic.com/en/ds/MAX5062-MAX5064B.pdf; ComponentLink3Description: Package Specification; ComponentLink3URL: http://pdfserv.maxim-ic.com/package_dwgs/21-0111.PDF
footprint S8E-14_N (SOIC, 8-Leads, Body 4.9x3.9mm, Pitch 1.27mm, Thermal Pad, IPC Medium Density)
footprint S8E-14_L (SOIC, 8-Leads, Body 4.9x3.9mm, Pitch 1.27mm, Thermal Pad, IPC High Density)
footprint S8E-14_M (SOIC, 8-Leads, Body 4.9x3.9mm, Pitch 1.27mm, Thermal Pad, IPC Low Density)
pins: 1 VDD (power), 2 BST, 3 DH (out), 4 HS, 5 IN_H (in), 6 IN_L (in), 7 GND (power), 8 DL (out), 9 EP (power)

## MAX5063DASA
designator U?
125V/2A, High-Speed, Half-Bridge MOSFET Driver, non-inverting high driver, inverting low driver, 8-Pin SOIC-EP, -40°C to +125°C; DatasheetVersion: Rev 5, May-2007; PackageVersion: revE, 2009; PackageReference: S8E-14; PackageDescription: 8-Pin Small-Outline IC, Narrow (0.15in), Exposed Pad, 1.27 mm Pitch, SOIC(N)-EP; Code_JEDEC: MS-012*; ComponentLink1Description: Manufacturer URL; ComponentLink1URL: http://www.maxim-ic.com; ComponentLink2Description: Datasheet; ComponentLink2URL: http://datasheets.maxim-ic.com/en/ds/MAX5062-MAX5064B.pdf; ComponentLink3Description: Package Specification; ComponentLink3URL: http://pdfserv.maxim-ic.com/package_dwgs/21-0111.PDF
footprint S8E-14_N (SOIC, 8-Leads, Body 4.9x3.9mm, Pitch 1.27mm, Thermal Pad, IPC Medium Density)
footprint S8E-14_L (SOIC, 8-Leads, Body 4.9x3.9mm, Pitch 1.27mm, Thermal Pad, IPC High Density)
footprint S8E-14_M (SOIC, 8-Leads, Body 4.9x3.9mm, Pitch 1.27mm, Thermal Pad, IPC Low Density)
pins: 1 VDD (power), 2 BST, 3 DH (out), 4 HS, 5 IN_H (in), 6 IN_L (in), 7 GND (power), 8 DL (out), 9 EP (power)

## MAX5063DASA+
designator U?
125V/2A, High-Speed, Half-Bridge MOSFET Driver, non-inverting high driver, inverting low driver, 8-Pin SOIC-EP, -40°C to +125°C, Pb-Free; DatasheetVersion: Rev 5, May-2007; PackageVersion: revE, 2009; PackageReference: S8E+14; PackageDescription: 8-Pin Small-Outline IC, Narrow (0.15in), Exposed Pad, 1.27 mm Pitch, SOIC(N)-EP, Pb-Free; Code_JEDEC: MS-012*; ComponentLink1Description: Manufacturer URL; ComponentLink1URL: http://www.maxim-ic.com; ComponentLink2Description: Datasheet; ComponentLink2URL: http://datasheets.maxim-ic.com/en/ds/MAX5062-MAX5064B.pdf; ComponentLink3Description: Package Specification; ComponentLink3URL: http://pdfserv.maxim-ic.com/package_dwgs/21-0111.PDF
footprint S8E+14_N (SOIC, 8-Leads, Body 4.9x3.9mm, Pitch 1.27mm, Thermal Pad, IPC Medium Density)
footprint S8E+14_L (SOIC, 8-Leads, Body 4.9x3.9mm, Pitch 1.27mm, Thermal Pad, IPC High Density)
footprint S8E+14_M (SOIC, 8-Leads, Body 4.9x3.9mm, Pitch 1.27mm, Thermal Pad, IPC Low Density)
pins: 1 VDD (power), 2 BST, 3 DH (out), 4 HS, 5 IN_H (in), 6 IN_L (in), 7 GND (power), 8 DL (out), 9 EP (power)

## MAX5063DASA+T
designator U?
125V/2A, High-Speed, Half-Bridge MOSFET Driver, non-inverting high driver, inverting low driver, 8-Pin SOIC-EP, -40°C to +125°C, Pb-Free, Tape and Reel; DatasheetVersion: Rev 5, May-2007; PackageVersion: revE, 2009; PackageReference: S8E+14; PackageDescription: 8-Pin Small-Outline IC, Narrow (0.15in), Exposed Pad, 1.27 mm Pitch, SOIC(N)-EP, Pb-Free; Code_JEDEC: MS-012*; ComponentLink1Description: Manufacturer URL; ComponentLink1URL: http://www.maxim-ic.com; ComponentLink2Description: Datasheet; ComponentLink2URL: http://datasheets.maxim-ic.com/en/ds/MAX5062-MAX5064B.pdf; ComponentLink3Description: Package Specification; ComponentLink3URL: http://pdfserv.maxim-ic.com/package_dwgs/21-0111.PDF
footprint S8E+14_N (SOIC, 8-Leads, Body 4.9x3.9mm, Pitch 1.27mm, Thermal Pad, IPC Medium Density)
footprint S8E+14_L (SOIC, 8-Leads, Body 4.9x3.9mm, Pitch 1.27mm, Thermal Pad, IPC High Density)
footprint S8E+14_M (SOIC, 8-Leads, Body 4.9x3.9mm, Pitch 1.27mm, Thermal Pad, IPC Low Density)
pins: 1 VDD (power), 2 BST, 3 DH (out), 4 HS, 5 IN_H (in), 6 IN_L (in), 7 GND (power), 8 DL (out), 9 EP (power)

## MAX5063DASA-T
designator U?
125V/2A, High-Speed, Half-Bridge MOSFET Driver, non-inverting high driver, inverting low driver, 8-Pin SOIC-EP, -40°C to +125°C, Tape and Reel; DatasheetVersion: Rev 5, May-2007; PackageVersion: revE, 2009; PackageReference: S8E-14; PackageDescription: 8-Pin Small-Outline IC, Narrow (0.15in), Exposed Pad, 1.27 mm Pitch, SOIC(N)-EP; Code_JEDEC: MS-012*; ComponentLink1Description: Manufacturer URL; ComponentLink1URL: http://www.maxim-ic.com; ComponentLink2Description: Datasheet; ComponentLink2URL: http://datasheets.maxim-ic.com/en/ds/MAX5062-MAX5064B.pdf; ComponentLink3Description: Package Specification; ComponentLink3URL: http://pdfserv.maxim-ic.com/package_dwgs/21-0111.PDF
footprint S8E-14_N (SOIC, 8-Leads, Body 4.9x3.9mm, Pitch 1.27mm, Thermal Pad, IPC Medium Density)
footprint S8E-14_L (SOIC, 8-Leads, Body 4.9x3.9mm, Pitch 1.27mm, Thermal Pad, IPC High Density)
footprint S8E-14_M (SOIC, 8-Leads, Body 4.9x3.9mm, Pitch 1.27mm, Thermal Pad, IPC Low Density)
pins: 1 VDD (power), 2 BST, 3 DH (out), 4 HS, 5 IN_H (in), 6 IN_L (in), 7 GND (power), 8 DL (out), 9 EP (power)

## MAX5064AATC
designator U?
125V/2A, High-Speed, Half-Bridge MOSFET Driver, inverting & non-inverting high driver, inverting & non-inverting low driver, 12-Pin TQFN, -40°C to +125°C; DatasheetVersion: Rev 5, May-2007; PackageVersion: revJ, 2011; PackageReference: T1244-4; PackageDescription: 12-Pin Thin Quad Flatpack, No Leads, 4 x 4 x 0.75 mm Body, 0.8 mm Pitch, TQFN; Code_JEDEC: MO-220WGGB; ComponentLink1Description: Manufacturer URL; ComponentLink1URL: http://www.maxim-ic.com; ComponentLink2Description: Datasheet; ComponentLink2URL: http://datasheets.maxim-ic.com/en/ds/MAX5062-MAX5064B.pdf; ComponentLink3Description: Package Specification; ComponentLink3URL: http://pdfserv.maxim-ic.com/package_dwgs/21-0139.PDF
footprint T1244-4_V (QFN, 12-Leads, Body 4x4mm, Pitch 0.8mm, Thermal Pad 2.23x2.23mm, Maxim Recommended)
pins: 1 BST, 2 DH (out), 3 HS, 4 AGND (power), 5 BBM, 6 IN_H- (in), 7 IN_H+ (in), 8 IN_L- (in), 9 IN_L+ (in), 10 PGND (power), 11 DL (out), 12 VDD (power), 13 EP (power)

## MAX5064AATC+
designator U?
125V/2A, High-Speed, Half-Bridge MOSFET Driver, inverting & non-inverting high driver, inverting & non-inverting low driver, 12-Pin TQFN, -40°C to +125°C, Pb-Free; DatasheetVersion: Rev 5, May-2007; PackageVersion: revJ, 2011; PackageReference: T1244+4; PackageDescription: 12-Pin Thin Quad Flatpack, No Leads, 4 x 4 x 0.75 mm Body, 0.8 mm Pitch, TQFN, Pb-Free; Code_JEDEC: MO-220WGGB; ComponentLink1Description: Manufacturer URL; ComponentLink1URL: http://www.maxim-ic.com; ComponentLink2Description: Datasheet; ComponentLink2URL: http://datasheets.maxim-ic.com/en/ds/MAX5062-MAX5064B.pdf; ComponentLink3Description: Package Specification; ComponentLink3URL: http://pdfserv.maxim-ic.com/package_dwgs/21-0139.PDF
footprint T1244+4_V (QFN, 12-Leads, Body 4x4mm, Pitch 0.8mm, Thermal Pad 2.23x2.23mm, Maxim Recommended)
pins: 1 BST, 2 DH (out), 3 HS, 4 AGND (power), 5 BBM, 6 IN_H- (in), 7 IN_H+ (in), 8 IN_L- (in), 9 IN_L+ (in), 10 PGND (power), 11 DL (out), 12 VDD (power), 13 EP (power)

## MAX5064AATC+T
designator U?
125V/2A, High-Speed, Half-Bridge MOSFET Driver, inverting & non-inverting high driver, inverting & non-inverting low driver, 12-Pin TQFN, -40°C to +125°C, Pb-Free, Tape and Reel; DatasheetVersion: Rev 5, May-2007; PackageVersion: revJ, 2011; PackageReference: T1244+4; PackageDescription: 12-Pin Thin Quad Flatpack, No Leads, 4 x 4 x 0.75 mm Body, 0.8 mm Pitch, TQFN, Pb-Free; Code_JEDEC: MO-220WGGB; ComponentLink1Description: Manufacturer URL; ComponentLink1URL: http://www.maxim-ic.com; ComponentLink2Description: Datasheet; ComponentLink2URL: http://datasheets.maxim-ic.com/en/ds/MAX5062-MAX5064B.pdf; ComponentLink3Description: Package Specification; ComponentLink3URL: http://pdfserv.maxim-ic.com/package_dwgs/21-0139.PDF
footprint T1244+4_V (QFN, 12-Leads, Body 4x4mm, Pitch 0.8mm, Thermal Pad 2.23x2.23mm, Maxim Recommended)
pins: 1 BST, 2 DH (out), 3 HS, 4 AGND (power), 5 BBM, 6 IN_H- (in), 7 IN_H+ (in), 8 IN_L- (in), 9 IN_L+ (in), 10 PGND (power), 11 DL (out), 12 VDD (power), 13 EP (power)

## MAX5064AATC-T
designator U?
125V/2A, High-Speed, Half-Bridge MOSFET Driver, inverting & non-inverting high driver, inverting & non-inverting low driver, 12-Pin TQFN, -40°C to +125°C, Tape and Reel; DatasheetVersion: Rev 5, May-2007; PackageVersion: revJ, 2011; PackageReference: T1244+4; PackageDescription: 12-Pin Thin Quad Flatpack, No Leads, 4 x 4 x 0.75 mm Body, 0.8 mm Pitch, TQFN, Pb-Free; Code_JEDEC: MO-220WGGB; ComponentLink1Description: Manufacturer URL; ComponentLink1URL: http://www.maxim-ic.com; ComponentLink2Description: Datasheet; ComponentLink2URL: http://datasheets.maxim-ic.com/en/ds/MAX5062-MAX5064B.pdf; ComponentLink3Description: Package Specification; ComponentLink3URL: http://pdfserv.maxim-ic.com/package_dwgs/21-0139.PDF
footprint T1244+4_V (QFN, 12-Leads, Body 4x4mm, Pitch 0.8mm, Thermal Pad 2.23x2.23mm, Maxim Recommended)
pins: 1 BST, 2 DH (out), 3 HS, 4 AGND (power), 5 BBM, 6 IN_H- (in), 7 IN_H+ (in), 8 IN_L- (in), 9 IN_L+ (in), 10 PGND (power), 11 DL (out), 12 VDD (power), 13 EP (power)

## MAX5064BATC
designator U?
125V/2A, High-Speed, Half-Bridge MOSFET Driver, inverting & non-inverting high driver, inverting & non-inverting low driver, 12-Pin TQFN, -40°C to +125°C; DatasheetVersion: Rev 5, May-2007; PackageVersion: revJ, 2011; PackageReference: T1244-4; PackageDescription: 12-Pin Thin Quad Flatpack, No Leads, 4 x 4 x 0.75 mm Body, 0.8 mm Pitch, TQFN; Code_JEDEC: MO-220WGGB; ComponentLink1Description: Manufacturer URL; ComponentLink1URL: http://www.maxim-ic.com; ComponentLink2Description: Datasheet; ComponentLink2URL: http://datasheets.maxim-ic.com/en/ds/MAX5062-MAX5064B.pdf; ComponentLink3Description: Package Specification; ComponentLink3URL: http://pdfserv.maxim-ic.com/package_dwgs/21-0139.PDF
footprint T1244-4_V (QFN, 12-Leads, Body 4x4mm, Pitch 0.8mm, Thermal Pad 2.23x2.23mm, Maxim Recommended)
pins: 1 BST, 2 DH (out), 3 HS, 4 AGND (power), 5 BBM, 6 IN_H- (in), 7 IN_H+ (in), 8 IN_L- (in), 9 IN_L+ (in), 10 PGND (power), 11 DL (out), 12 VDD (power), 13 EP (power)

## MAX5064BATC+
designator U?
125V/2A, High-Speed, Half-Bridge MOSFET Driver, inverting & non-inverting high driver, inverting & non-inverting low driver, 12-Pin TQFN, -40°C to +125°C, Pb-Free; DatasheetVersion: Rev 5, May-2007; PackageVersion: revJ, 2011; PackageReference: T1244+4; PackageDescription: 12-Pin Thin Quad Flatpack, No Leads, 4 x 4 x 0.75 mm Body, 0.8 mm Pitch, TQFN, Pb-Free; Code_JEDEC: MO-220WGGB; ComponentLink1Description: Manufacturer URL; ComponentLink1URL: http://www.maxim-ic.com; ComponentLink2Description: Datasheet; ComponentLink2URL: http://datasheets.maxim-ic.com/en/ds/MAX5062-MAX5064B.pdf; ComponentLink3Description: Package Specification; ComponentLink3URL: http://pdfserv.maxim-ic.com/package_dwgs/21-0139.PDF
footprint T1244+4_V (QFN, 12-Leads, Body 4x4mm, Pitch 0.8mm, Thermal Pad 2.23x2.23mm, Maxim Recommended)
pins: 1 BST, 2 DH (out), 3 HS, 4 AGND (power), 5 BBM, 6 IN_H- (in), 7 IN_H+ (in), 8 IN_L- (in), 9 IN_L+ (in), 10 PGND (power), 11 DL (out), 12 VDD (power), 13 EP (power)

## MAX5064BATC+T
designator U?
125V/2A, High-Speed, Half-Bridge MOSFET Driver, inverting & non-inverting high driver, inverting & non-inverting low driver, 12-Pin TQFN, -40°C to +125°C, Pb-Free, Tape and Reel; DatasheetVersion: Rev 5, May-2007; PackageVersion: revJ, 2011; PackageReference: T1244+4; PackageDescription: 12-Pin Thin Quad Flatpack, No Leads, 4 x 4 x 0.75 mm Body, 0.8 mm Pitch, TQFN, Pb-Free; Code_JEDEC: MO-220WGGB; ComponentLink1Description: Manufacturer URL; ComponentLink1URL: http://www.maxim-ic.com; ComponentLink2Description: Datasheet; ComponentLink2URL: http://datasheets.maxim-ic.com/en/ds/MAX5062-MAX5064B.pdf; ComponentLink3Description: Package Specification; ComponentLink3URL: http://pdfserv.maxim-ic.com/package_dwgs/21-0139.PDF
footprint T1244+4_V (QFN, 12-Leads, Body 4x4mm, Pitch 0.8mm, Thermal Pad 2.23x2.23mm, Maxim Recommended)
pins: 1 BST, 2 DH (out), 3 HS, 4 AGND (power), 5 BBM, 6 IN_H- (in), 7 IN_H+ (in), 8 IN_L- (in), 9 IN_L+ (in), 10 PGND (power), 11 DL (out), 12 VDD (power), 13 EP (power)

## MAX5064BATC-T
designator U?
125V/2A, High-Speed, Half-Bridge MOSFET Driver, inverting & non-inverting high driver, inverting & non-inverting low driver, 12-Pin TQFN, -40°C to +125°C, Tape and Reel; DatasheetVersion: Rev 5, May-2007; PackageVersion: revJ, 2011; PackageReference: T1244+4; PackageDescription: 12-Pin Thin Quad Flatpack, No Leads, 4 x 4 x 0.75 mm Body, 0.8 mm Pitch, TQFN, Pb-Free; Code_JEDEC: MO-220WGGB; ComponentLink1Description: Manufacturer URL; ComponentLink1URL: http://www.maxim-ic.com; ComponentLink2Description: Datasheet; ComponentLink2URL: http://datasheets.maxim-ic.com/en/ds/MAX5062-MAX5064B.pdf; ComponentLink3Description: Package Specification; ComponentLink3URL: http://pdfserv.maxim-ic.com/package_dwgs/21-0139.PDF
footprint T1244+4_V (QFN, 12-Leads, Body 4x4mm, Pitch 0.8mm, Thermal Pad 2.23x2.23mm, Maxim Recommended)
pins: 1 BST, 2 DH (out), 3 HS, 4 AGND (power), 5 BBM, 6 IN_H- (in), 7 IN_H+ (in), 8 IN_L- (in), 9 IN_L+ (in), 10 PGND (power), 11 DL (out), 12 VDD (power), 13 EP (power)

## MAX5066AUI
designator U?
Configurable, Single-/Dual-Output, Synchronous Buck Controller for High-Current Applications, 28-Pin TSSOP-EP, -40°C to +125°C; DatasheetVersion: Rev 1, Aug-2005; PackageVersion: revK, 2010; PackageReference: U28E-4; PackageDescription: 28-Pin Thin Shrink Small-Outline Package, Exposed Pad, TSSOP-EP; Code_JEDEC: MO-153-AET; ComponentLink1Description: Manufacturer URL; ComponentLink1URL: http://www.maxim-ic.com; ComponentLink2Description: Datasheet; ComponentLink2URL: http://datasheets.maxim-ic.com/en/ds/MAX5066.pdf; ComponentLink3Description: Package Specification; ComponentLink3URL: http://pdfserv.maxim-ic.com/package_dwgs/21-0108.PDF
footprint U28E-4_N (TSOP, 28-Leads, Body 9.7x4.4mm, Pitch 0.65mm, Thermal Pad, IPC Medium Density)
footprint U28E-4_L (TSOP, 28-Leads, Body 9.7x4.4mm, Pitch 0.65mm, Thermal Pad, IPC High Density)
footprint U28E-4_M (TSOP, 28-Leads, Body 9.7x4.4mm, Pitch 0.65mm, Thermal Pad, IPC Low Density)
pins: 1 CSN2 (in), 2 CSP2 (in), 3 EAOUT2 (out), 4 EAN2 (in), 5 CLP2 (out), 6 REF (out), 7 RT/CLKIN (in), 8 AGND (power), 9 MODE (in), 10 CLP1 (out), 11 EAN1 (in), 12 EAOUT1 (out), 13 CSP1 (in), 14 CSN1 (in), 15 EN1 (in), 16 BST1, 17 DH1 (out), 18 LX1, 19 DL1 (out), 20 VDD (power), 21 REG (power), 22 IN (power), 23 PGND (power), 24 DL2 (out), 25 LX2, 26 DH2 (out), 27 BST2, 28 EN2 (in), 29 EP (power)

## MAX5066AUI+
designator U?
Configurable, Single-/Dual-Output, Synchronous Buck Controller for High-Current Applications, 28-Pin TSSOP-EP, -40°C to +125°C, Pb-Free; DatasheetVersion: Rev 1, Aug-2005; PackageVersion: revK, 2010; PackageReference: U28E+4; PackageDescription: 28-Pin Thin Shrink Small-Outline Package, Exposed Pad, TSSOP-EP, Pb-Free; Code_JEDEC: MO-153-AET; ComponentLink1Description: Manufacturer URL; ComponentLink1URL: http://www.maxim-ic.com; ComponentLink2Description: Datasheet; ComponentLink2URL: http://datasheets.maxim-ic.com/en/ds/MAX5066.pdf; ComponentLink3Description: Package Specification; ComponentLink3URL: http://pdfserv.maxim-ic.com/package_dwgs/21-0108.PDF
footprint U28E+4_N (TSOP, 28-Leads, Body 9.7x4.4mm, Pitch 0.65mm, Thermal Pad, IPC Medium Density)
footprint U28E+4_L (TSOP, 28-Leads, Body 9.7x4.4mm, Pitch 0.65mm, Thermal Pad, IPC High Density)
footprint U28E+4_M (TSOP, 28-Leads, Body 9.7x4.4mm, Pitch 0.65mm, Thermal Pad, IPC Low Density)
pins: 1 CSN2 (in), 2 CSP2 (in), 3 EAOUT2 (out), 4 EAN2 (in), 5 CLP2 (out), 6 REF (out), 7 RT/CLKIN (in), 8 AGND (power), 9 MODE (in), 10 CLP1 (out), 11 EAN1 (in), 12 EAOUT1 (out), 13 CSP1 (in), 14 CSN1 (in), 15 EN1 (in), 16 BST1, 17 DH1 (out), 18 LX1, 19 DL1 (out), 20 VDD (power), 21 REG (power), 22 IN (power), 23 PGND (power), 24 DL2 (out), 25 LX2, 26 DH2 (out), 27 BST2, 28 EN2 (in), 29 EP (power)

## MAX5066AUI+T
designator U?
Configurable, Single-/Dual-Output, Synchronous Buck Controller for High-Current Applications, 28-Pin TSSOP-EP, -40°C to +125°C, Pb-Free, Tape and Reel; DatasheetVersion: Rev 1, Aug-2005; PackageVersion: revK, 2010; PackageReference: U28E+4; PackageDescription: 28-Pin Thin Shrink Small-Outline Package, Exposed Pad, TSSOP-EP, Pb-Free; Code_JEDEC: MO-153-AET; ComponentLink1Description: Manufacturer URL; ComponentLink1URL: http://www.maxim-ic.com; ComponentLink2Description: Datasheet; ComponentLink2URL: http://datasheets.maxim-ic.com/en/ds/MAX5066.pdf; ComponentLink3Description: Package Specification; ComponentLink3URL: http://pdfserv.maxim-ic.com/package_dwgs/21-0108.PDF
footprint U28E+4_N (TSOP, 28-Leads, Body 9.7x4.4mm, Pitch 0.65mm, Thermal Pad, IPC Medium Density)
footprint U28E+4_L (TSOP, 28-Leads, Body 9.7x4.4mm, Pitch 0.65mm, Thermal Pad, IPC High Density)
footprint U28E+4_M (TSOP, 28-Leads, Body 9.7x4.4mm, Pitch 0.65mm, Thermal Pad, IPC Low Density)
pins: 1 CSN2 (in), 2 CSP2 (in), 3 EAOUT2 (out), 4 EAN2 (in), 5 CLP2 (out), 6 REF (out), 7 RT/CLKIN (in), 8 AGND (power), 9 MODE (in), 10 CLP1 (out), 11 EAN1 (in), 12 EAOUT1 (out), 13 CSP1 (in), 14 CSN1 (in), 15 EN1 (in), 16 BST1, 17 DH1 (out), 18 LX1, 19 DL1 (out), 20 VDD (power), 21 REG (power), 22 IN (power), 23 PGND (power), 24 DL2 (out), 25 LX2, 26 DH2 (out), 27 BST2, 28 EN2 (in), 29 EP (power)

## MAX5066AUI-T
designator U?
Configurable, Single-/Dual-Output, Synchronous Buck Controller for High-Current Applications, 28-Pin TSSOP-EP, -40°C to +125°C, Tape and Reel; DatasheetVersion: Rev 1, Aug-2005; PackageVersion: revK, 2010; PackageReference: U28E-4; PackageDescription: 28-Pin Thin Shrink Small-Outline Package, Exposed Pad, TSSOP-EP; Code_JEDEC: MO-153-AET; ComponentLink1Description: Manufacturer URL; ComponentLink1URL: http://www.maxim-ic.com; ComponentLink2Description: Datasheet; ComponentLink2URL: http://datasheets.maxim-ic.com/en/ds/MAX5066.pdf; ComponentLink3Description: Package Specification; ComponentLink3URL: http://pdfserv.maxim-ic.com/package_dwgs/21-0108.PDF
footprint U28E-4_N (TSOP, 28-Leads, Body 9.7x4.4mm, Pitch 0.65mm, Thermal Pad, IPC Medium Density)
footprint U28E-4_L (TSOP, 28-Leads, Body 9.7x4.4mm, Pitch 0.65mm, Thermal Pad, IPC High Density)
footprint U28E-4_M (TSOP, 28-Leads, Body 9.7x4.4mm, Pitch 0.65mm, Thermal Pad, IPC Low Density)
pins: 1 CSN2 (in), 2 CSP2 (in), 3 EAOUT2 (out), 4 EAN2 (in), 5 CLP2 (out), 6 REF (out), 7 RT/CLKIN (in), 8 AGND (power), 9 MODE (in), 10 CLP1 (out), 11 EAN1 (in), 12 EAOUT1 (out), 13 CSP1 (in), 14 CSN1 (in), 15 EN1 (in), 16 BST1, 17 DH1 (out), 18 LX1, 19 DL1 (out), 20 VDD (power), 21 REG (power), 22 IN (power), 23 PGND (power), 24 DL2 (out), 25 LX2, 26 DH2 (out), 27 BST2, 28 EN2 (in), 29 EP (power)

## MAX5066AUI/GG8
designator U?
Configurable, Single-/Dual-Output, Synchronous Buck Controller for High-Current Applications, 28-Pin TSSOP-EP, -40°C to +125°C; DatasheetVersion: Rev 1, Aug-2005; PackageVersion: revK, 2010; PackageReference: U28E-4; PackageDescription: 28-Pin Thin Shrink Small-Outline Package, Exposed Pad, TSSOP-EP; Code_JEDEC: MO-153-AET; ComponentLink1Description: Manufacturer URL; ComponentLink1URL: http://www.maxim-ic.com; ComponentLink2Description: Datasheet; ComponentLink2URL: http://datasheets.maxim-ic.com/en/ds/MAX5066.pdf; ComponentLink3Description: Package Specification; ComponentLink3URL: http://pdfserv.maxim-ic.com/package_dwgs/21-0108.PDF
footprint U28E-4_N (TSOP, 28-Leads, Body 9.7x4.4mm, Pitch 0.65mm, Thermal Pad, IPC Medium Density)
footprint U28E-4_L (TSOP, 28-Leads, Body 9.7x4.4mm, Pitch 0.65mm, Thermal Pad, IPC High Density)
footprint U28E-4_M (TSOP, 28-Leads, Body 9.7x4.4mm, Pitch 0.65mm, Thermal Pad, IPC Low Density)
pins: 1 CSN2 (in), 2 CSP2 (in), 3 EAOUT2 (out), 4 EAN2 (in), 5 CLP2 (out), 6 REF (out), 7 RT/CLKIN (in), 8 AGND (power), 9 MODE (in), 10 CLP1 (out), 11 EAN1 (in), 12 EAOUT1 (out), 13 CSP1 (in), 14 CSN1 (in), 15 EN1 (in), 16 BST1, 17 DH1 (out), 18 LX1, 19 DL1 (out), 20 VDD (power), 21 REG (power), 22 IN (power), 23 PGND (power), 24 DL2 (out), 25 LX2, 26 DH2 (out), 27 BST2, 28 EN2 (in), 29 EP (power)

## MAX5066EUI
designator U?
Configurable, Single-/Dual-Output, Synchronous Buck Controller for High-Current Applications, 28-Pin TSSOP-EP, -40°C to +85°C; DatasheetVersion: Rev 1, Aug-2005; PackageVersion: revK, 2010; PackageReference: U28E-4; PackageDescription: 28-Pin Thin Shrink Small-Outline Package, Exposed Pad, TSSOP-EP; Code_JEDEC: MO-153-AET; ComponentLink1Description: Manufacturer URL; ComponentLink1URL: http://www.maxim-ic.com; ComponentLink2Description: Datasheet; ComponentLink2URL: http://datasheets.maxim-ic.com/en/ds/MAX5066.pdf; ComponentLink3Description: Package Specification; ComponentLink3URL: http://pdfserv.maxim-ic.com/package_dwgs/21-0108.PDF
footprint U28E-4_N (TSOP, 28-Leads, Body 9.7x4.4mm, Pitch 0.65mm, Thermal Pad, IPC Medium Density)
footprint U28E-4_L (TSOP, 28-Leads, Body 9.7x4.4mm, Pitch 0.65mm, Thermal Pad, IPC High Density)
footprint U28E-4_M (TSOP, 28-Leads, Body 9.7x4.4mm, Pitch 0.65mm, Thermal Pad, IPC Low Density)
pins: 1 CSN2 (in), 2 CSP2 (in), 3 EAOUT2 (out), 4 EAN2 (in), 5 CLP2 (out), 6 REF (out), 7 RT/CLKIN (in), 8 AGND (power), 9 MODE (in), 10 CLP1 (out), 11 EAN1 (in), 12 EAOUT1 (out), 13 CSP1 (in), 14 CSN1 (in), 15 EN1 (in), 16 BST1, 17 DH1 (out), 18 LX1, 19 DL1 (out), 20 VDD (power), 21 REG (power), 22 IN (power), 23 PGND (power), 24 DL2 (out), 25 LX2, 26 DH2 (out), 27 BST2, 28 EN2 (in), 29 EP (power)

## MAX5066EUI+
designator U?
Configurable, Single-/Dual-Output, Synchronous Buck Controller for High-Current Applications, 28-Pin TSSOP-EP, -40°C to +85°C, Pb-Free; DatasheetVersion: Rev 1, Aug-2005; PackageVersion: revK, 2010; PackageReference: U28E+4; PackageDescription: 28-Pin Thin Shrink Small-Outline Package, Exposed Pad, TSSOP-EP, Pb-Free; Code_JEDEC: MO-153-AET; ComponentLink1Description: Manufacturer URL; ComponentLink1URL: http://www.maxim-ic.com; ComponentLink2Description: Datasheet; ComponentLink2URL: http://datasheets.maxim-ic.com/en/ds/MAX5066.pdf; ComponentLink3Description: Package Specification; ComponentLink3URL: http://pdfserv.maxim-ic.com/package_dwgs/21-0108.PDF
footprint U28E+4_N (TSOP, 28-Leads, Body 9.7x4.4mm, Pitch 0.65mm, Thermal Pad, IPC Medium Density)
footprint U28E+4_L (TSOP, 28-Leads, Body 9.7x4.4mm, Pitch 0.65mm, Thermal Pad, IPC High Density)
footprint U28E+4_M (TSOP, 28-Leads, Body 9.7x4.4mm, Pitch 0.65mm, Thermal Pad, IPC Low Density)
pins: 1 CSN2 (in), 2 CSP2 (in), 3 EAOUT2 (out), 4 EAN2 (in), 5 CLP2 (out), 6 REF (out), 7 RT/CLKIN (in), 8 AGND (power), 9 MODE (in), 10 CLP1 (out), 11 EAN1 (in), 12 EAOUT1 (out), 13 CSP1 (in), 14 CSN1 (in), 15 EN1 (in), 16 BST1, 17 DH1 (out), 18 LX1, 19 DL1 (out), 20 VDD (power), 21 REG (power), 22 IN (power), 23 PGND (power), 24 DL2 (out), 25 LX2, 26 DH2 (out), 27 BST2, 28 EN2 (in), 29 EP (power)

## MAX5066EUI+T
designator U?
Configurable, Single-/Dual-Output, Synchronous Buck Controller for High-Current Applications, 28-Pin TSSOP-EP, -40°C to +85°C, Pb-Free, Tape and Reel; DatasheetVersion: Rev 1, Aug-2005; PackageVersion: revK, 2010; PackageReference: U28E+4; PackageDescription: 28-Pin Thin Shrink Small-Outline Package, Exposed Pad, TSSOP-EP, Pb-Free; Code_JEDEC: MO-153-AET; ComponentLink1Description: Manufacturer URL; ComponentLink1URL: http://www.maxim-ic.com; ComponentLink2Description: Datasheet; ComponentLink2URL: http://datasheets.maxim-ic.com/en/ds/MAX5066.pdf; ComponentLink3Description: Package Specification; ComponentLink3URL: http://pdfserv.maxim-ic.com/package_dwgs/21-0108.PDF
footprint U28E+4_N (TSOP, 28-Leads, Body 9.7x4.4mm, Pitch 0.65mm, Thermal Pad, IPC Medium Density)
footprint U28E+4_L (TSOP, 28-Leads, Body 9.7x4.4mm, Pitch 0.65mm, Thermal Pad, IPC High Density)
footprint U28E+4_M (TSOP, 28-Leads, Body 9.7x4.4mm, Pitch 0.65mm, Thermal Pad, IPC Low Density)
pins: 1 CSN2 (in), 2 CSP2 (in), 3 EAOUT2 (out), 4 EAN2 (in), 5 CLP2 (out), 6 REF (out), 7 RT/CLKIN (in), 8 AGND (power), 9 MODE (in), 10 CLP1 (out), 11 EAN1 (in), 12 EAOUT1 (out), 13 CSP1 (in), 14 CSN1 (in), 15 EN1 (in), 16 BST1, 17 DH1 (out), 18 LX1, 19 DL1 (out), 20 VDD (power), 21 REG (power), 22 IN (power), 23 PGND (power), 24 DL2 (out), 25 LX2, 26 DH2 (out), 27 BST2, 28 EN2 (in), 29 EP (power)

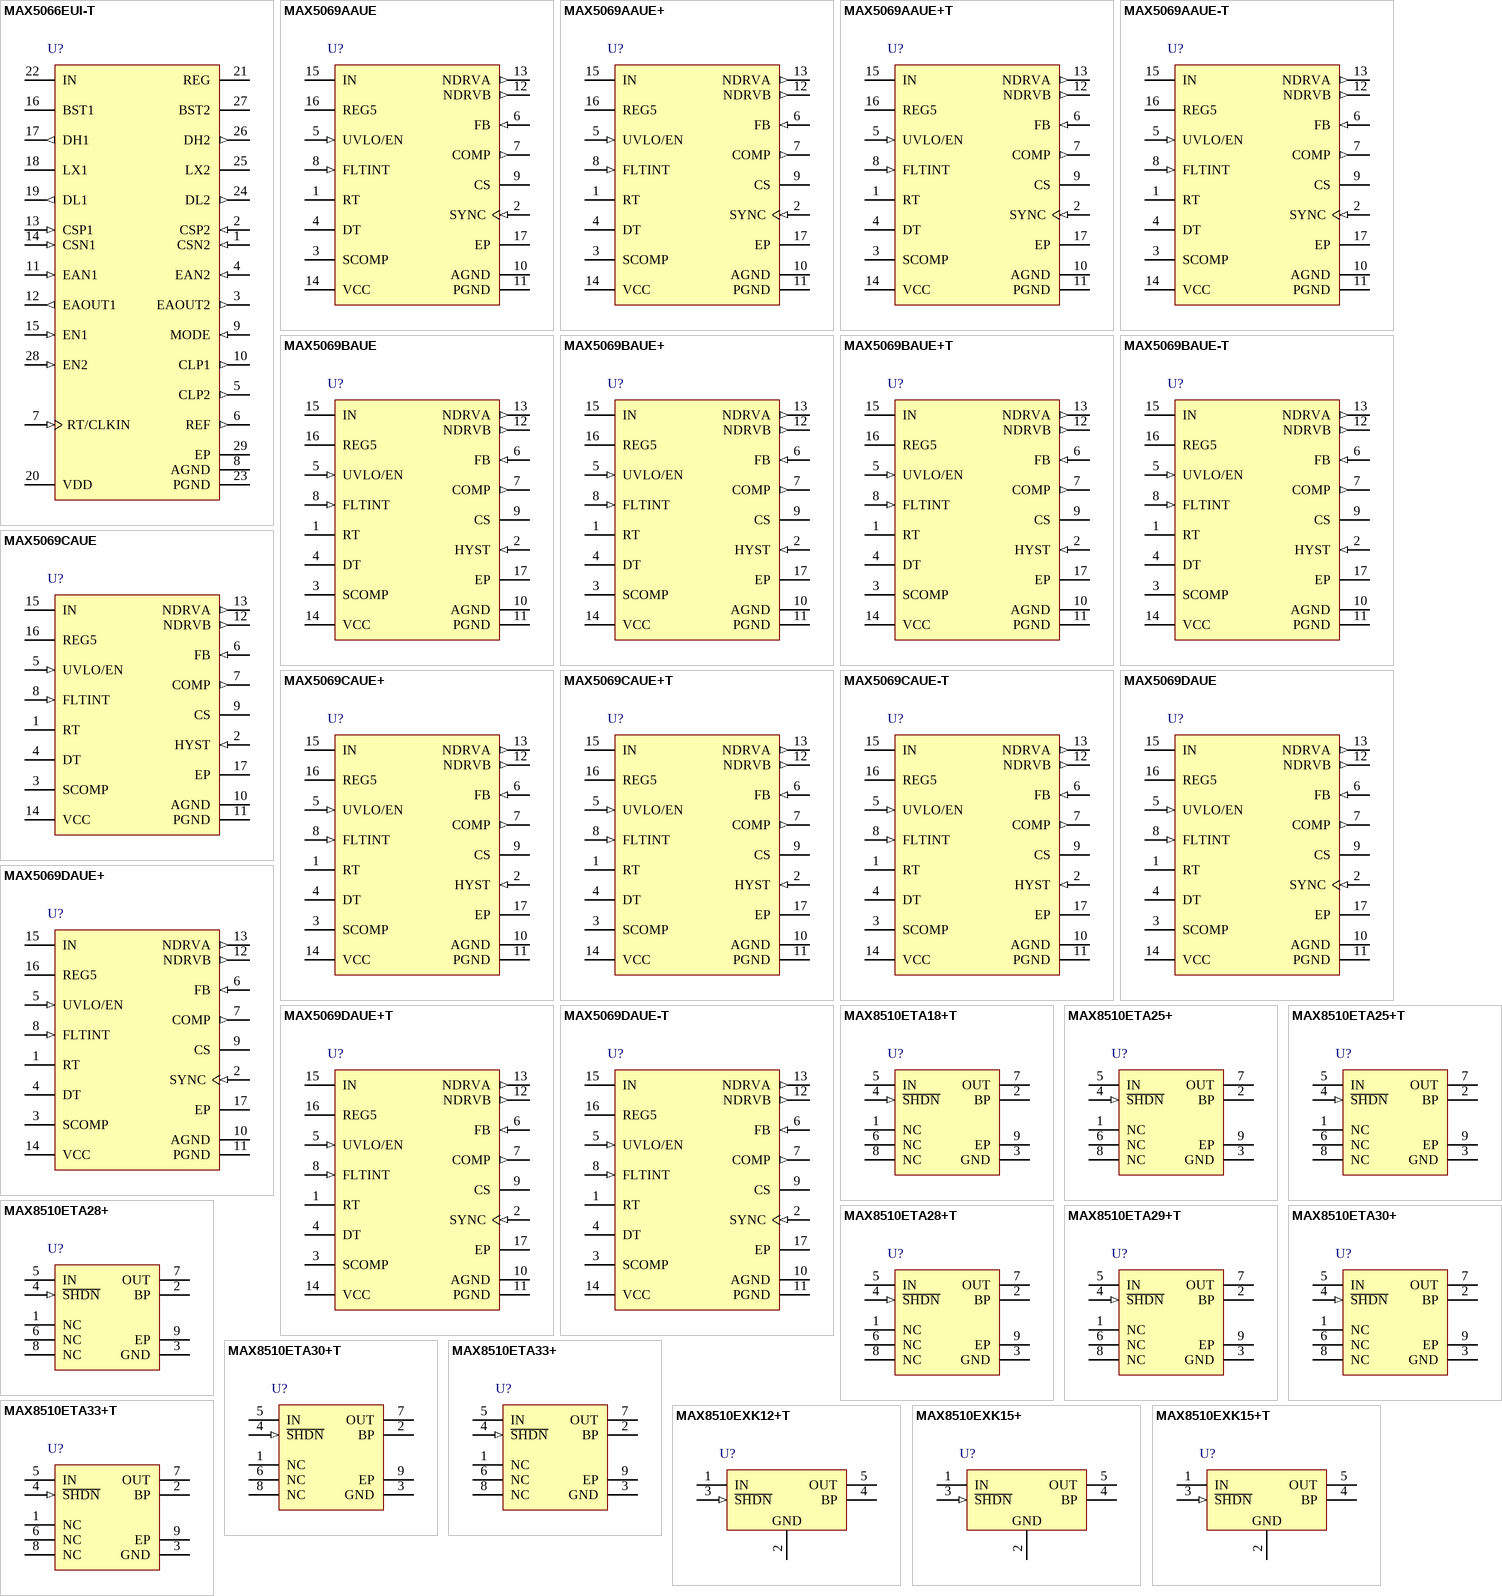
[diagram p8: symbols MAX5066EUI-T to MAX8510EXK15+T]